# EAGLE library part PIC16F505 (library microchip-4)
MICROCONTROLLER 1k Program Flash memory 72 bytes SRAM 12 I/O One 8-bit timer (TMR0) Precision 4 MHz internal oscillator
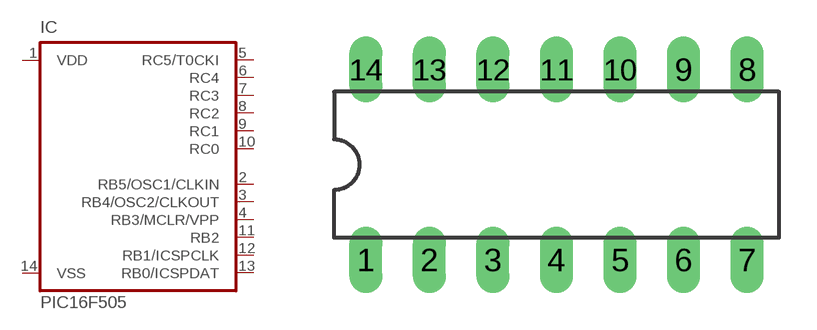
[diagram p60: symbol with the pads of DIL14; footprint DIL14]

Designator prefix IC

## PIC16F505  [DIL14]
1  VDD  pwr
2  RB5/OSC1/CLKIN
3  RB4/OSC2/CLKOUT
4  RB3/MCLR/VPP
5  RC5/T0CKI
6  RC4
7  RC3
8  RC2
9  RC1
10  RC0
11  RB2
12  RB1/ICSPCLK
13  RB0/ICSPDAT
14  VSS  pwr

## Footprint DIL14 (pad centres in mm)
Dual In Line Package
drill 0.813 long: 1 -7.62,-3.81; 2 -5.08,-3.81; 3 -2.54,-3.81; 4 0,-3.81; 5 2.54,-3.81; 6 5.08,-3.81; 7 7.62,-3.81; 8 7.62,3.81; 9 5.08,3.81; 10 2.54,3.81; 11 0,3.81; 12 -2.54,3.81; 13 -5.08,3.81; 14 -7.62,3.81